# Altium schematic symbol library Passives.SchLib: 279 symbols (part 5 of 10)
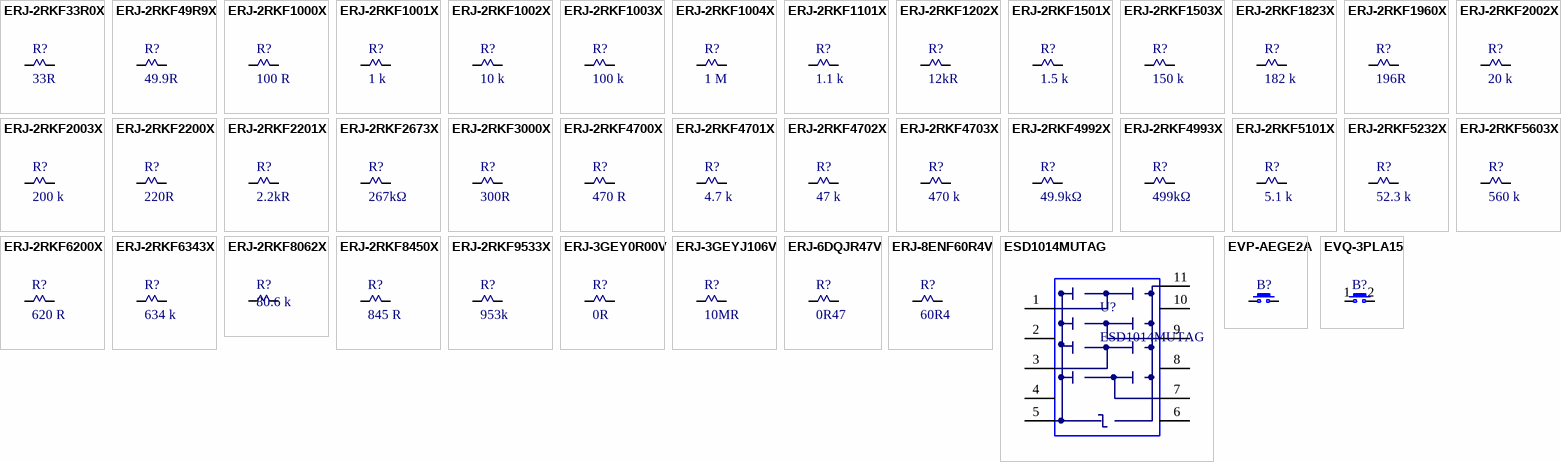
[diagram p11: symbols ERJ-2RKF33R0X to EVQ-3PLA15]

## ERJ-2RKF2003X
designator R?, comment 200 k
RES SMD 200K OHM 1% 1/10W 0402; Manufacturer: Panasonic Electronic Components; Manufacturer Part Number: ERJ-2RKF2003X; Power (Watts): 0.1W, 1/10W; Temperature Coefficient: ±100ppm/°C; Supplier 1: Digi-Key; RoHS: RoHS Compliant; Category: Resistors; Stock 1: 708742; Pricing 1: 1=0.1, 10=0.025, 25=0.018, 50=0.0136, 100=0.01, 250=0.00764, 500=0.00612, 1000=0.00451, 5000=0.00323 (USD); Packaging: Digi-Reel®; Part Status: Active; Resistance (Ohms): 200k; Tolerance: ±1%; Composition: Thick Film; Features: Automotive AEC-Q200; Operating Temperature: -55°C ~ 155°C; Package / Case: 0402 (1005 Metric); Supplier Device Package: 0402; Size / Dimension: 0.039" L x 0.020" W (1.00mm x 0.50mm); Height - Seated (Max): 0.016" (0.40mm); Number of Terminations: 2; Failure Rate: -; ComponentLink1URL: https://industrial.panasonic.com/cdbs/www-data/pdf/RDA0000/AOA0000C283.pdf; ComponentLink1Description: https://industrial.panasonic.com/cdbs/www-data/pdf/RDA0000/AOA0000C283.pdf; Supplier Part Number 1: P200KLDKR-ND; Value: 200 k
signal-integrity model Model Name (Model Description)
footprint RESC1005X04N (Chip Resistor, 2-Leads, Body 1.00x0.50mm, IPC Medium Density)
pins: 1, 2

## ERJ-2RKF2200X
designator R?, comment 220R
RES, THICK FILM, 220R, 1%, 0.1W, 0402; Manufacturer: Panasonic; Manufacturer Part Number: ERJ-2RKF2200X; Temperature Coefficient: 100ppm/°C; Power Rating: 100mW; Voltage Rating: 50V; Supplier 1: Digi-Key; Supplier Part Number 1: P220LCT-ND; RoHS: Yes; Category: Chip SMD Resistors; Stock 1: 149501; Pricing 1: 1=0.10000, 10=0.02200, 100=0.00890, 1000=0.00398, 2500=0.00345, 5000=0.00285 (USD); Mount: Surface Mount; Case/Package: 0402; Number of Pins: 2; Contact Plating: Tin; Case Code (Imperial): 0402; Case Code (Metric): 1005; Min Operating Temperature: -55°C; Max Operating Temperature: 155°C; Resistance: 220R; Tolerance: 1%; Resistor Type: Thick Film; Packaging: Tape and Reel; Package Quantity: 10000; Termination: SMD/SMT; Number of Terminations: 2; Max Power Dissipation: 100mW; Voltage Rating (DC): 50V; Features: Automotive AEC-Q200; Length: 1mm; Width: 0.5mm; Height: 0.35mm; Depth: 0.5mm; Radiation Hardening: No; REACH SVHC: No SVHC; Military Standard: Not; Lead Free: Lead Free; ComponentLink1URL: https://datasheet.ciiva.com/11821/0900766b80f80784-11821255.pdf?src-supplier=RSComponents; ComponentLink1Description: https://datasheet.ciiva.com/11821/0900766b80f80784-11821255.pdf?src-supplier=RSComponents; ComponentLink2URL: https://datasheet.ciiva.com/16784/70260748-16784822.pdf?src-supplier=Allied+Electronics; ComponentLink2Description: https://datasheet.ciiva.com/16784/70260748-16784822.pdf?src-supplier=Allied+Electronics; ComponentLink3URL: https://datasheet.ciiva.com/16762/70260748-16762119.pdf?src-supplier=Allied+Electronics; ComponentLink3Description: https://datasheet.ciiva.com/16762/70260748-16762119.pdf?src-supplier=Allied+Electronics; ComponentLink4URL: https://datasheet.ciiva.com/30162/aoa0000ce2-30162199.pdf?src-supplier=Onlinecomponents.com; ComponentLink4Description: https://datasheet.ciiva.com/30162/aoa0000ce2-30162199.pdf?src-supplier=Onlinecomponents.com; ComponentLink5URL: https://datasheet.ciiva.com/22668/426256-22668362.pdf?src-supplier=Element14; ComponentLink5Description: https://datasheet.ciiva.com/22668/426256-22668362.pdf?src-supplier=Element14; ComponentLink6URL: https://datasheet.ciiva.com/7886/aoa0000ce2-7886716.pdf?src-supplier=Element14; ComponentLink6Description: https://datasheet.ciiva.com/7886/aoa0000ce2-7886716.pdf?src-supplier=Element14; ComponentLink7URL: https://datasheet.ciiva.com/46372/1678782-46372860.pdf?src-supplier=Element14; ComponentLink7Description: https://datasheet.ciiva.com/46372/1678782-46372860.pdf?src-supplier=Element14; ComponentLink8URL: https://datasheet.ciiva.com/17206/aoa0000ce2-17206829.pdf?src-supplier=Avnet+Europe; ComponentLink8Description: https://datasheet.ciiva.com/17206/aoa0000ce2-17206829.pdf?src-supplier=Avnet+Europe; ComponentLink9URL: https://datasheet.ciiva.com/46372/1678782-46372861.pdf?src-supplier=Element14; ComponentLink9Description: https://datasheet.ciiva.com/46372/1678782-46372861.pdf?src-supplier=Element14; ComponentLink10URL: https://datasheet.ciiva.com/9184/aoa0000ce2-9184270.pdf?src-supplier=Avnet; ComponentLink10Description: https://datasheet.ciiva.com/9184/aoa0000ce2-9184270.pdf?src-supplier=Avnet
footprint RESC1005X04N (Chip Resistor, 2-Leads, Body 1.00x0.50mm, IPC Medium Density)
pins: 1, 2

## ERJ-2RKF2201X
designator R?, comment 2.2kR
RES, THICK FILM,  2.2K OHM 1%, 0.1W, 0402,; Manufacturer: Panasonic; Manufacturer Part Number: ERJ-2RKF2201X; Temperature Coefficient: 100ppm/°C; Power Rating: 100mW; Voltage Rating: 50V; RoHS: Yes; Category: Chip SMD Resistors; Stock 1: 775580; Pricing 1: 1=0.10000, 10=0.02200, 100=0.00890, 1000=0.00398, 2500=0.00345, 5000=0.00285 (USD); Mount: Surface Mount; Case/Package: 0402; Number of Pins: 2; Contact Plating: Tin; Case Code (Imperial): 0402; Case Code (Metric): 1005; Weight: 2.8E-05oz; Min Operating Temperature: -55°C; Max Operating Temperature: 155°C; Resistance: 2.2kR; Tolerance: 1%; Resistor Type: Thick Film; Packaging: Tape and Reel; Package Quantity: 1; Termination: SMD/SMT; Number of Terminations: 2; Max Power Dissipation: 100mW; Voltage Rating (DC): 50V; Features: Automotive AEC-Q200; Length: 1mm; Width: 0.5mm; Height: 0.35mm; Depth: 0.5mm; Radiation Hardening: No; REACH SVHC: No SVHC; Military Standard: Not; Lead Free: Lead Free; ComponentLink1URL: https://datasheet.ciiva.com/11821/0900766b80f80784-11821273.pdf?src-supplier=RSComponents; ComponentLink1Description: https://datasheet.ciiva.com/11821/0900766b80f80784-11821273.pdf?src-supplier=RSComponents; ComponentLink2URL: https://datasheet.ciiva.com/7830/aoa0000ce2-7830726.pdf?src-supplier=Element14; ComponentLink2Description: https://datasheet.ciiva.com/7830/aoa0000ce2-7830726.pdf?src-supplier=Element14; ComponentLink3URL: https://datasheet.ciiva.com/16780/70260748-16780438.pdf?src-supplier=Allied+Electronics; ComponentLink3Description: https://datasheet.ciiva.com/16780/70260748-16780438.pdf?src-supplier=Allied+Electronics; ComponentLink4URL: https://datasheet.ciiva.com/16426/aoa0000ce2-16426745.pdf?src-supplier=Future+Electronics; ComponentLink4Description: https://datasheet.ciiva.com/16426/aoa0000ce2-16426745.pdf?src-supplier=Future+Electronics; ComponentLink5URL: https://datasheet.ciiva.com/9197/aoa0000ce2-9197306.pdf?src-supplier=Avnet; ComponentLink5Description: https://datasheet.ciiva.com/9197/aoa0000ce2-9197306.pdf?src-supplier=Avnet; ComponentLink6URL: https://datasheet.ciiva.com/48531/aoa0000ce2-48531066.pdf?src-supplier=Avnet; ComponentLink6Description: https://datasheet.ciiva.com/48531/aoa0000ce2-48531066.pdf?src-supplier=Avnet; ComponentLink7URL: https://datasheet.ciiva.com/17214/aoa0000ce2-17214251.pdf?src-supplier=Avnet+Europe; ComponentLink7Description: https://datasheet.ciiva.com/17214/aoa0000ce2-17214251.pdf?src-supplier=Avnet+Europe; ComponentLink8URL: https://datasheet.ciiva.com/28584/1678782-28584091.pdf?src-supplier=Element14; ComponentLink8Description: https://datasheet.ciiva.com/28584/1678782-28584091.pdf?src-supplier=Element14; ComponentLink9URL: https://datasheet.ciiva.com/16759/70260748-16759436.pdf?src-supplier=Allied+Electronics; ComponentLink9Description: https://datasheet.ciiva.com/16759/70260748-16759436.pdf?src-supplier=Allied+Electronics; ComponentLink10URL: https://datasheet.ciiva.com/46372/1678782-46372732.pdf?src-supplier=Element14; ComponentLink10Description: https://datasheet.ciiva.com/46372/1678782-46372732.pdf?src-supplier=Element14; ComponentLink11URL: https://datasheet.ciiva.com/46372/1678782-46372733.pdf?src-supplier=Element14; ComponentLink11Description: https://datasheet.ciiva.com/46372/1678782-46372733.pdf?src-supplier=Element14; ComponentLink12URL: https://datasheet.ciiva.com/43467/1678782-43467343.pdf?src-supplier=Farnell; ComponentLink12Description: https://datasheet.ciiva.com/43467/1678782-43467343.pdf?src-supplier=Farnell; Stock 2: 149501; Pricing 2: 1=0.10000, 10=0.02200, 100=0.00890, 1000=0.00398, 2500=0.00345, 5000=0.00285 (USD); ComponentLink13URL: https://datasheet.ciiva.com/11821/0900766b80f80784-11821255.pdf?src-supplier=RSComponents; ComponentLink13Description: https://datasheet.ciiva.com/11821/0900766b80f80784-11821255.pdf?src-supplier=RSComponents; ComponentLink14URL: https://datasheet.ciiva.com/16784/70260748-16784822.pdf?src-supplier=Allied+Electronics; ComponentLink14Description: https://datasheet.ciiva.com/16784/70260748-16784822.pdf?src-supplier=Allied+Electronics; ComponentLink15URL: https://datasheet.ciiva.com/16762/70260748-16762119.pdf?src-supplier=Allied+Electronics; ComponentLink15Description: https://datasheet.ciiva.com/16762/70260748-16762119.pdf?src-supplier=Allied+Electronics; ComponentLink16URL: https://datasheet.ciiva.com/30162/aoa0000ce2-30162199.pdf?src-supplier=Onlinecomponents.com; ComponentLink16Description: https://datasheet.ciiva.com/30162/aoa0000ce2-30162199.pdf?src-supplier=Onlinecomponents.com; ComponentLink17URL: https://datasheet.ciiva.com/22668/426256-22668362.pdf?src-supplier=Element14; ComponentLink17Description: https://datasheet.ciiva.com/22668/426256-22668362.pdf?src-supplier=Element14; ComponentLink18URL: https://datasheet.ciiva.com/7886/aoa0000ce2-7886716.pdf?src-supplier=Element14; ComponentLink18Description: https://datasheet.ciiva.com/7886/aoa0000ce2-7886716.pdf?src-supplier=Element14; ComponentLink19URL: https://datasheet.ciiva.com/46372/1678782-46372860.pdf?src-supplier=Element14; ComponentLink19Description: https://datasheet.ciiva.com/46372/1678782-46372860.pdf?src-supplier=Element14; ComponentLink20URL: https://datasheet.ciiva.com/17206/aoa0000ce2-17206829.pdf?src-supplier=Avnet+Europe; ComponentLink20Description: https://datasheet.ciiva.com/17206/aoa0000ce2-17206829.pdf?src-supplier=Avnet+Europe; ComponentLink21URL: https://datasheet.ciiva.com/46372/1678782-46372861.pdf?src-supplier=Element14; ComponentLink21Description: https://datasheet.ciiva.com/46372/1678782-46372861.pdf?src-supplier=Element14; ComponentLink22URL: https://datasheet.ciiva.com/9184/aoa0000ce2-9184270.pdf?src-supplier=Avnet; ComponentLink22Description: https://datasheet.ciiva.com/9184/aoa0000ce2-9184270.pdf?src-supplier=Avnet; Supplier 1: Digi-Key; Supplier Part Number 1: P2.20KLCT-ND
footprint RESC1005X04N (Chip Resistor, 2-Leads, Body 1.00x0.50mm, IPC Medium Density)
pins: 1, 2

## ERJ-2RKF2673X
designator R?, comment 267kΩ
Res Thick Film 0402 267K Ohm 1% 1/10W ±100ppm/°C Molded SMD Punched Carrier T/R; Manufacturer: Panasonic; Manufacturer Part Number: ERJ-2RKF2673X; Manufacturer Lifecycle Status: ACTIVE; Part Series: Precision Thick Film Chip Resistors; Max Power Dissipation: 100mW; Voltage Rating: 50V; Supplier: Future Electronics; Supplier Part Number: ERJ2RKF2673X; RoHS: Compliant; Category: Chip SMD Resistors; Stock: 90000; Pricing: 10000=0.0035, 40000=0.0034, 150000=0.0033, 250000=0.0032, 500000=0.0031 (USD); Case/Package: 0402; Case Code (Imperial): 0402; China RoHS: Non-Compliant; Composition: Thick Film; Contact Plating: Tin; Country of Origin: Japan, Mainland China; Depth: 500µm; Export Control Classification Number (ECCN) Code: EAR99; Features: Automotive AEC-Q200; Height: 350µm; Harmonized Tariff Schedule (HTS) Code: 8533.21.00.30; Introduction Date: 2004-02-02; Lead Free: Lead Free; Length: 1mm; Lifecycle Status: Production; Max Operating Temperature: 155°C; Military Standard: Not; Min Operating Temperature: -55°C; Mounting Technology: Surface Mount; Number of Terminals: 2; Number of Terminations: 2; Power Dissipation: 100mW; Power Rating: 100mW; Ratings: AEC-Q200; REACH SVHC: Yes; Value: 267kΩ; Schedule B: 8533210045, 8533210045|8533210045|8533210045|8533210045|8533210045; Temperature Coefficient: 100ppm/°C; Termination: SMD/SMT; Tolerance: 1%; Voltage Rating (DC): 50V; Width: 500µm; Working Voltage: 50V; ComponentLink1URL: https://datasheet.octopart.com:443/ERJ-2RKF2673X-Panasonic-datasheet-82288794.pdf?src-supplier=Panasonic; ComponentLink1Description: https://datasheet.octopart.com:443/ERJ-2RKF2673X-Panasonic-datasheet-82288794.pdf?src-supplier=Panasonic; ComponentLink2URL: https://datasheet.octopart.com:443/ERJ-2RKF2673X-Panasonic-datasheet-48891056.pdf?src-supplier=Newark; ComponentLink2Description: https://datasheet.octopart.com:443/ERJ-2RKF2673X-Panasonic-datasheet-48891056.pdf?src-supplier=Newark; ComponentLink3URL: https://datasheet.octopart.com:443/ERJ-2RKF2673X-Panasonic-datasheet-13266541.pdf?src-supplier=Newark; ComponentLink3Description: https://datasheet.octopart.com:443/ERJ-2RKF2673X-Panasonic-datasheet-13266541.pdf?src-supplier=Newark; ComponentLink4URL: https://datasheet.octopart.com:443/ERJ-2RKF2673X-Panasonic-datasheet-33006990.pdf?src-supplier=Newark; ComponentLink4Description: https://datasheet.octopart.com:443/ERJ-2RKF2673X-Panasonic-datasheet-33006990.pdf?src-supplier=Newark; ComponentLink5URL: https://datasheet.octopart.com:443/ERJ-2RKF2673X-Panasonic---ECG-datasheet-21211697.pdf?src-supplier=Newark; ComponentLink5Description: https://datasheet.octopart.com:443/ERJ-2RKF2673X-Panasonic---ECG-datasheet-21211697.pdf?src-supplier=Newark; ComponentLink6URL: https://datasheet.octopart.com:443/ERJ-2RKF2673X-Panasonic-datasheet-136608610.pdf?src-supplier=Farnell; ComponentLink6Description: https://datasheet.octopart.com:443/ERJ-2RKF2673X-Panasonic-datasheet-136608610.pdf?src-supplier=Farnell; ComponentLink7URL: https://datasheet.octopart.com:443/ERJ-2RKF2673X-Panasonic---ECG-datasheet-15994758.pdf?src-supplier=Farnell; ComponentLink7Description: https://datasheet.octopart.com:443/ERJ-2RKF2673X-Panasonic---ECG-datasheet-15994758.pdf?src-supplier=Farnell; ComponentLink8URL: https://datasheet.octopart.com:443/ERJ-2RKF2673X-Panasonic---ECG-datasheet-10025800.pdf?src-supplier=Farnell; ComponentLink8Description: https://datasheet.octopart.com:443/ERJ-2RKF2673X-Panasonic---ECG-datasheet-10025800.pdf?src-supplier=Farnell; ComponentLink9URL: https://datasheet.octopart.com:443/ERJ-2RKF2673X-Panasonic---ECG-datasheet-8853621.pdf?src-supplier=Farnell; ComponentLink9Description: https://datasheet.octopart.com:443/ERJ-2RKF2673X-Panasonic---ECG-datasheet-8853621.pdf?src-supplier=Farnell; ComponentLink10URL: https://datasheet.octopart.com:443/ERJ-2RKF2673X-Panasonic---ECG-datasheet-5313456.pdf?src-supplier=Farnell; ComponentLink10Description: https://datasheet.octopart.com:443/ERJ-2RKF2673X-Panasonic---ECG-datasheet-5313456.pdf?src-supplier=Farnell; ComponentLink11URL: https://datasheet.octopart.com:443/ERJ2RKF2673X-Panasonic-datasheet-164353789.pdf?src-supplier=HQonline; ComponentLink11Description: https://datasheet.octopart.com:443/ERJ2RKF2673X-Panasonic-datasheet-164353789.pdf?src-supplier=HQonline; ComponentLink12URL: https://datasheet.octopart.com:443/ERJ-2RKF2673X-Panasonic-datasheet-154766169.pdf?src-supplier=Master+Electronics; ComponentLink12Description: https://datasheet.octopart.com:443/ERJ-2RKF2673X-Panasonic-datasheet-154766169.pdf?src-supplier=Master+Electronics; ComponentLink13URL: https://datasheet.octopart.com:443/ERJ2RKF2673X-Panasonic-datasheet-188592431.pdf?src-supplier=TME; ComponentLink13Description: https://datasheet.octopart.com:443/ERJ2RKF2673X-Panasonic-datasheet-188592431.pdf?src-supplier=TME; ComponentLink14URL: https://datasheet.octopart.com/ERJ-2RKF2673X-Panasonic-datasheet-78375410.pdf; ComponentLink14Description: https://datasheet.octopart.com/ERJ-2RKF2673X-Panasonic-datasheet-78375410.pdf; ComponentLink15URL: https://datasheet.octopart.com:443/ERJ-2RKF2673X-Panasonic-datasheet-11542829.pdf?src-supplier=Arrow+Electronics; ComponentLink15Description: https://datasheet.octopart.com:443/ERJ-2RKF2673X-Panasonic-datasheet-11542829.pdf?src-supplier=Arrow+Electronics; ComponentLink16URL: https://datasheet.octopart.com:443/ERJ-2RKF2673X-Panasonic-datasheet-118621.pdf?src-supplier=DigiKey; ComponentLink16Description: https://datasheet.octopart.com:443/ERJ-2RKF2673X-Panasonic-datasheet-118621.pdf?src-supplier=DigiKey; ComponentLink17URL: https://datasheet.octopart.com:443/ERJ-2RKF2673X-Panasonic-datasheet-41391857.pdf?src-supplier=Electro+Sonic; ComponentLink17Description: https://datasheet.octopart.com:443/ERJ-2RKF2673X-Panasonic-datasheet-41391857.pdf?src-supplier=Electro+Sonic
footprint RESC1005X04N (Chip Resistor, 2-Leads, Body 1.00x0.50mm, IPC Medium Density)
pins: 1, 2

## ERJ-2RKF3000X
designator R?, comment 300R
Res Thick Film 0402 300 Ohm 1% 0.1W ±100ppm/°C Molded SMD Punched Carrier T/R; Manufacturer: Panasonic; Manufacturer Part Number: ERJ-2RKF3000X; Supplier: Avnet; Supplier Part Number: ERJ-2RKF3000X; RoHS: Yes; Category: Chip SMD Resistors; Stock: 60000; Pricing: 10000=0.00235, 20000=0.00233, 40000=0.00229, 60000=0.00225, 80000=0.00221 (USD); ComponentLink1URL: https://datasheet.ciiva.com/3883/3984280s8821682n1386-3883650.pdf?src-supplier=Arrow+Electronics; ComponentLink1Description: https://datasheet.ciiva.com/3883/3984280s8821682n1386-3883650.pdf?src-supplier=Arrow+Electronics; ComponentLink2URL: https://datasheet.ciiva.com/11821/0900766b80f80784-11821263.pdf?src-supplier=Rs; ComponentLink2Description: https://datasheet.ciiva.com/11821/0900766b80f80784-11821263.pdf?src-supplier=Rs; ComponentLink3URL: https://datasheet.ciiva.com/16765/70260748-16765494.pdf?src-supplier=Allied+Electronics; ComponentLink3Description: https://datasheet.ciiva.com/16765/70260748-16765494.pdf?src-supplier=Allied+Electronics; ComponentLink4URL: https://datasheet.ciiva.com/28565/1694929-28565023.pdf?src-supplier=Element14; ComponentLink4Description: https://datasheet.ciiva.com/28565/1694929-28565023.pdf?src-supplier=Element14; ComponentLink5URL: https://datasheet.ciiva.com/30068/aoa0000ce2-30068727.pdf?src-supplier=Onlinecomponents.com; ComponentLink5Description: https://datasheet.ciiva.com/30068/aoa0000ce2-30068727.pdf?src-supplier=Onlinecomponents.com; ComponentLink6URL: https://datasheet.ciiva.com/24068/aoa0000ce2-24068911.pdf?src-supplier=Mouser; ComponentLink6Description: https://datasheet.ciiva.com/24068/aoa0000ce2-24068911.pdf?src-supplier=Mouser; ComponentLink7URL: https://datasheet.ciiva.com/43467/1678782-43467261.pdf?src-supplier=Farnell; ComponentLink7Description: https://datasheet.ciiva.com/43467/1678782-43467261.pdf?src-supplier=Farnell; Resistance: 300R; Supplier 1: Avnet; Supplier Part Number 1: ERJ-2RKF3000X
footprint RESC1005X04N (Chip Resistor, 2-Leads, Body 1.00x0.50mm, IPC Medium Density)
pins: 1, 2

## ERJ-2RKF4700X
designator R?, comment 470 R
RES SMD 470 OHM 1% 1/10W 0402; Manufacturer: Panasonic Electronic Components; Manufacturer Part Number: ERJ-2RKF4700X; Resistance (Ohms): 470; Power (Watts): 0.1W, 1/10W; Temperature Coefficient: ±100ppm/°C; Supplier 1: Digi-Key; RoHS: RoHS Compliant; Category: Resistors; Stock 1: 322002; Pricing 1: 1=0.1, 10=0.025, 25=0.018, 50=0.0136, 100=0.01, 250=0.00764, 500=0.00612, 1000=0.00451, 5000=0.00323 (USD); Packaging: Digi-Reel®; Part Status: Active; Tolerance: ±1%; Composition: Thick Film; Features: Automotive AEC-Q200; Operating Temperature: -55°C ~ 155°C; Package / Case: 0402 (1005 Metric); Supplier Device Package: 0402; Size / Dimension: 0.039" L x 0.020" W (1.00mm x 0.50mm); Height - Seated (Max): 0.016" (0.40mm); Number of Terminations: 2; Failure Rate: -; ComponentLink1URL: https://industrial.panasonic.com/cdbs/www-data/pdf/RDA0000/AOA0000C283.pdf; ComponentLink1Description: https://industrial.panasonic.com/cdbs/www-data/pdf/RDA0000/AOA0000C283.pdf; Supplier Part Number 1: P470LDKR-ND; Value: 470 R
footprint RESC1005X04N (Chip Resistor, 2-Leads, Body 1.00x0.50mm, IPC Medium Density)
signal-integrity model Model Name (Model Description)
pins: 1, 2

## ERJ-2RKF4701X
designator R?, comment 4.7 k
RES SMD 4.7K OHM 1% 1/10W 0402; Manufacturer: Panasonic Electronic Components; Manufacturer Part Number: ERJ-2RKF4701X; Power (Watts): 0.1W, 1/10W; Temperature Coefficient: ±100ppm/°C; Supplier 1: Digi-Key; RoHS: RoHS Compliant; Category: Resistors; Stock 1: 1945303; Pricing 1: 1=0.1, 10=0.025, 25=0.018, 50=0.0136, 100=0.01, 250=0.00764, 500=0.00612, 1000=0.00451, 5000=0.00323 (USD); Packaging: Digi-Reel®; Part Status: Active; Resistance (Ohms): 4.7k; Tolerance: ±1%; Composition: Thick Film; Features: Automotive AEC-Q200; Operating Temperature: -55°C ~ 155°C; Package / Case: 0402 (1005 Metric); Supplier Device Package: 0402; Size / Dimension: 0.039" L x 0.020" W (1.00mm x 0.50mm); Height - Seated (Max): 0.016" (0.40mm); Number of Terminations: 2; Failure Rate: -; ComponentLink1URL: https://industrial.panasonic.com/cdbs/www-data/pdf/RDA0000/AOA0000C283.pdf; ComponentLink1Description: https://industrial.panasonic.com/cdbs/www-data/pdf/RDA0000/AOA0000C283.pdf; Supplier Part Number 1: P4.70KLDKR-ND; Value: 4.7 k
footprint RESC1005X04N (Chip Resistor, 2-Leads, Body 1.00x0.50mm, IPC Medium Density)
signal-integrity model Model Name (Model Description)
pins: 1, 2

## ERJ-2RKF4702X
designator R?, comment 47 k
RES SMD 47K OHM 1% 1/10W 0402; Manufacturer: Panasonic Electronic Components; Manufacturer Part Number: ERJ-2RKF4702X; Power (Watts): 0.1W, 1/10W; Temperature Coefficient: ±100ppm/°C; Supplier 1: Digi-Key; RoHS: RoHS Compliant; Category: Resistors; Stock 1: 1319055; Pricing 1: 1=0.1, 10=0.025, 25=0.018, 50=0.0136, 100=0.01, 250=0.00764, 500=0.00612, 1000=0.00451, 5000=0.00323 (USD); Packaging: Digi-Reel®; Part Status: Active; Resistance (Ohms): 47k; Tolerance: ±1%; Composition: Thick Film; Features: Automotive AEC-Q200; Operating Temperature: -55°C ~ 155°C; Package / Case: 0402 (1005 Metric); Supplier Device Package: 0402; Size / Dimension: 0.039" L x 0.020" W (1.00mm x 0.50mm); Height - Seated (Max): 0.016" (0.40mm); Number of Terminations: 2; Failure Rate: -; ComponentLink1URL: https://industrial.panasonic.com/cdbs/www-data/pdf/RDA0000/AOA0000C283.pdf; ComponentLink1Description: https://industrial.panasonic.com/cdbs/www-data/pdf/RDA0000/AOA0000C283.pdf; Supplier Part Number 1: P47.0KLDKR-ND; Value: 47 k
footprint RESC1005X04N (Chip Resistor, 2-Leads, Body 1.00x0.50mm, IPC Medium Density)
signal-integrity model Model Name (Model Description)
pins: 1, 2

## ERJ-2RKF4703X
designator R?, comment 470 k
RES SMD 470K OHM 1% 1/10W 0402; Manufacturer: Panasonic Electronic Components; Manufacturer Part Number: ERJ-2RKF4703X; Power (Watts): 0.1W, 1/10W; Temperature Coefficient: ±100ppm/°C; Supplier 1: Digi-Key; RoHS: RoHS Compliant; Category: Resistors; Stock 1: 157317; Pricing 1: 1=0.1, 10=0.025, 25=0.018, 50=0.0136, 100=0.01, 250=0.00764, 500=0.00612, 1000=0.00451, 5000=0.00323 (USD); Packaging: Digi-Reel®; Part Status: Active; Resistance (Ohms): 470k; Tolerance: ±1%; Composition: Thick Film; Features: Automotive AEC-Q200; Operating Temperature: -55°C ~ 155°C; Package / Case: 0402 (1005 Metric); Supplier Device Package: 0402; Size / Dimension: 0.039" L x 0.020" W (1.00mm x 0.50mm); Height - Seated (Max): 0.016" (0.40mm); Number of Terminations: 2; Failure Rate: -; ComponentLink1URL: https://industrial.panasonic.com/cdbs/www-data/pdf/RDA0000/AOA0000C283.pdf; ComponentLink1Description: https://industrial.panasonic.com/cdbs/www-data/pdf/RDA0000/AOA0000C283.pdf; Supplier Part Number 1: P470KLDKR-ND; Value: 470 k
footprint RESC1005X04N (Chip Resistor, 2-Leads, Body 1.00x0.50mm, IPC Medium Density)
signal-integrity model Model Name (Model Description)
pins: 1, 2

## ERJ-2RKF4992X
designator R?, comment 49.9kΩ
Res Thick Film 0402 49.9K Ohm 1% 0.1W(1/10W) ±100ppm/C Pad SMD Automotive T/R; Manufacturer: Panasonic; Manufacturer Part Number: ERJ2RKF4992X; Manufacturer Lifecycle Status: ACTIVE; Part Series: Precision Thick Film Chip Resistors; Max Power Dissipation: 100mW; Temperature Coefficient: 100ppm/°C; Voltage Rating: 50V; Supplier: Farnell; Supplier Part Number: ERJ2RKF4992X; RoHS: Compliant; Category: Chip SMD Resistors; Stock: 1157; Pricing: 500=0.0086, 2500=0.0076, 5000=0.0057 (EUR); Case/Package: 0402; Case Code (Imperial): 0402; China RoHS: Non-Compliant; Composition: Thick Film; Contact Plating: Tin; Country of Origin: Japan, Mainland China; Depth: 500µm; Export Control Classification Number (ECCN) Code: EAR99; Features: Automotive AEC-Q200; Height: 350µm; Harmonized Tariff Schedule (HTS) Code: 8533.21.00.30; Introduction Date: 2004-02-02; Lead Free: Lead Free; Length: 1mm; Lifecycle Status: Production; Max Operating Temperature: 155°C; Military Standard: Not; Min Operating Temperature: -55°C; Mounting Technology: Surface Mount; Number of Terminals: 2; Number of Terminations: 2; Packaging: Cut Tape; Power Rating: 100mW; Radiation Hardening: No; Ratings: AEC-Q200; REACH SVHC: Yes; Value: 49.9kΩ; Schedule B: 8533210045, 8533210045|8533210045|8533210045|8533210045|8533210045; Termination: SMD/SMT; Tolerance: 1%; Voltage Rating (DC): 50V; Width: 500µm; Working Voltage: 50V; ComponentLink1URL: https://datasheet.octopart.com:443/ERJ2RKF4992X-Panasonic-datasheet-82288794.pdf?src-supplier=Upverter; ComponentLink1Description: https://datasheet.octopart.com:443/ERJ2RKF4992X-Panasonic-datasheet-82288794.pdf?src-supplier=Upverter; ComponentLink2URL: https://datasheet.octopart.com:443/ERJ2RKF4992X-Panasonic-datasheet-13266541.pdf?src-supplier=RS+(Formerly+Allied+Electronics); ComponentLink2Description: https://datasheet.octopart.com:443/ERJ2RKF4992X-Panasonic-datasheet-13266541.pdf?src-supplier=RS+(Formerly+Allied+Electronics); ComponentLink3URL: https://datasheet.octopart.com:443/ERJ2RKF4992X-Panasonic-datasheet-10025800.pdf?src-supplier=Future+Electronics; ComponentLink3Description: https://datasheet.octopart.com:443/ERJ2RKF4992X-Panasonic-datasheet-10025800.pdf?src-supplier=Future+Electronics; ComponentLink4URL: https://datasheet.octopart.com:443/ERJ2RKF4992X-Panasonic-datasheet-8853621.pdf?src-supplier=Future+Electronics; ComponentLink4Description: https://datasheet.octopart.com:443/ERJ2RKF4992X-Panasonic-datasheet-8853621.pdf?src-supplier=Future+Electronics; ComponentLink5URL: https://datasheet.octopart.com:443/ERJ2RKF4992X-Panasonic-datasheet-5313456.pdf?src-supplier=Future+Electronics; ComponentLink5Description: https://datasheet.octopart.com:443/ERJ2RKF4992X-Panasonic-datasheet-5313456.pdf?src-supplier=Future+Electronics; ComponentLink6URL: https://datasheet.octopart.com:443/ERJ2RKF4992X-Panasonic-datasheet-48891056.pdf?src-supplier=Newark; ComponentLink6Description: https://datasheet.octopart.com:443/ERJ2RKF4992X-Panasonic-datasheet-48891056.pdf?src-supplier=Newark; ComponentLink7URL: https://datasheet.octopart.com:443/ERJ2RKF4992X-Panasonic-datasheet-136608610.pdf?src-supplier=Newark; ComponentLink7Description: https://datasheet.octopart.com:443/ERJ2RKF4992X-Panasonic-datasheet-136608610.pdf?src-supplier=Newark; ComponentLink8URL: https://datasheet.octopart.com:443/ERJ-2RKF4992X-Panasonic-datasheet-154766169.pdf?src-supplier=JRH+Electronics; ComponentLink8Description: https://datasheet.octopart.com:443/ERJ-2RKF4992X-Panasonic-datasheet-154766169.pdf?src-supplier=JRH+Electronics; ComponentLink9URL: https://datasheet.octopart.com:443/ERJ2RKF4992X-Panasonic-datasheet-164353789.pdf?src-supplier=HQonline; ComponentLink9Description: https://datasheet.octopart.com:443/ERJ2RKF4992X-Panasonic-datasheet-164353789.pdf?src-supplier=HQonline; ComponentLink10URL: https://datasheet.octopart.com:443/ERJ2RKF4992X-Panasonic-datasheet-188592431.pdf?src-supplier=TME; ComponentLink10Description: https://datasheet.octopart.com:443/ERJ2RKF4992X-Panasonic-datasheet-188592431.pdf?src-supplier=TME; ComponentLink11URL: https://datasheet.octopart.com/ERJ2RKF4992X-Panasonic-datasheet-78375410.pdf; ComponentLink11Description: https://datasheet.octopart.com/ERJ2RKF4992X-Panasonic-datasheet-78375410.pdf; ComponentLink12URL: https://datasheet.octopart.com:443/ERJ-2RKF4992X-Panasonic---ECG-datasheet-15994758.pdf?src-supplier=Farnell; ComponentLink12Description: https://datasheet.octopart.com:443/ERJ-2RKF4992X-Panasonic---ECG-datasheet-15994758.pdf?src-supplier=Farnell; ComponentLink13URL: https://datasheet.octopart.com:443/ERJ2RKF4992X-Panasonic-datasheet-7538305.pdf?src-supplier=Jameco; ComponentLink13Description: https://datasheet.octopart.com:443/ERJ2RKF4992X-Panasonic-datasheet-7538305.pdf?src-supplier=Jameco; ComponentLink14URL: https://datasheet.octopart.com:443/ERJ-2RKF4992X-Panasonic-datasheet-118621.pdf?src-supplier=DigiKey; ComponentLink14Description: https://datasheet.octopart.com:443/ERJ-2RKF4992X-Panasonic-datasheet-118621.pdf?src-supplier=DigiKey; ComponentLink15URL: https://datasheet.octopart.com:443/ERJ-2RKF4992X-Panasonic-datasheet-41391857.pdf?src-supplier=Electro+Sonic; ComponentLink15Description: https://datasheet.octopart.com:443/ERJ-2RKF4992X-Panasonic-datasheet-41391857.pdf?src-supplier=Electro+Sonic; Supplier 1: Farnell; Supplier Part Number 1: ERJ2RKF4992X
footprint RESC1005X04N (Chip Resistor, 2-Leads, Body 1.00x0.50mm, IPC Medium Density)
pins: 1, 2

## ERJ-2RKF4993X
designator R?, comment 499kΩ
Res Thick Film 0402 499K Ohm 1% 0.1W ±100ppm/°C Molded SMD Punched Carrier T/R; Manufacturer: Panasonic; Manufacturer Part Number: ERJ-2RKF4993X; Manufacturer Lifecycle Status: ACTIVE; Part Series: Precision Thick Film Chip Resistors; Max Power Dissipation: 100mW; Voltage Rating: 50V; Supplier: Farnell; Supplier Part Number: ERJ2RKF4993X; RoHS: Compliant; Category: Chip SMD Resistors; Stock: 21194; Pricing: 10=0.0162, 100=0.0134, 500=0.0086, 2500=0.0076, 5000=0.0057 (EUR); Case/Package: 0402; Case Code (Imperial): 0402; China RoHS: Non-Compliant; Composition: Thick Film; Contact Plating: Tin; Country of Origin: Japan, Mainland China; Depth: 500µm; Export Control Classification Number (ECCN) Code: EAR99; Features: Automotive AEC-Q200; Height: 350µm; Harmonized Tariff Schedule (HTS) Code: 8533.21.00.30; Introduction Date: 2004-02-02; Lead Free: Lead Free; Length: 1mm; Lifecycle Status: Production; Max Operating Temperature: 155°C; Military Standard: Not; Min Operating Temperature: -55°C; Mounting Technology: Surface Mount; Pins: 2; Number of Terminals: 2; Number of Terminations: 2; Packaging: Cut Tape; Power Rating: 100mW; Ratings: AEC-Q200; REACH SVHC: Yes; Value: 499kΩ; Schedule B: 8533210045, 8533210045|8533210045, 8533210045|8533210045|8533210045, 8533210045|8533210045|8533210045|8533210045; Temperature Coefficient: 100ppm/°C; Termination: SMD/SMT; Tolerance: 1%; Voltage Rating (DC): 50V; Weight: 793.786648µg; Width: 500µm; Working Voltage: 50V; ComponentLink1URL: https://sigma.octopart.com:443/138766958/technical_drawing/Panasonic-ERJ-2RKF4993X.pdf?src-supplier=Upverter; ComponentLink1Description: https://sigma.octopart.com:443/138766958/technical_drawing/Panasonic-ERJ-2RKF4993X.pdf?src-supplier=Upverter; ComponentLink2URL: https://datasheet.octopart.com:443/ERJ-2RKF4993X-Panasonic-datasheet-82288794.pdf?src-supplier=Panasonic; ComponentLink2Description: https://datasheet.octopart.com:443/ERJ-2RKF4993X-Panasonic-datasheet-82288794.pdf?src-supplier=Panasonic; ComponentLink3URL: https://datasheet.octopart.com:443/ERJ-2RKF4993X-Panasonic-datasheet-13266541.pdf?src-supplier=Farnell; ComponentLink3Description: https://datasheet.octopart.com:443/ERJ-2RKF4993X-Panasonic-datasheet-13266541.pdf?src-supplier=Farnell; ComponentLink4URL: https://datasheet.octopart.com:443/ERJ-2RKF4993X-Panasonic-datasheet-10025800.pdf?src-supplier=Farnell; ComponentLink4Description: https://datasheet.octopart.com:443/ERJ-2RKF4993X-Panasonic-datasheet-10025800.pdf?src-supplier=Farnell; ComponentLink5URL: https://datasheet.octopart.com:443/ERJ-2RKF4993X-Panasonic-datasheet-8853621.pdf?src-supplier=Farnell; ComponentLink5Description: https://datasheet.octopart.com:443/ERJ-2RKF4993X-Panasonic-datasheet-8853621.pdf?src-supplier=Farnell; ComponentLink6URL: https://datasheet.octopart.com:443/ERJ-2RKF4993X-Panasonic---ECG-datasheet-15994758.pdf?src-supplier=Farnell; ComponentLink6Description: https://datasheet.octopart.com:443/ERJ-2RKF4993X-Panasonic---ECG-datasheet-15994758.pdf?src-supplier=Farnell; ComponentLink7URL: https://datasheet.octopart.com:443/ERJ-2RKF4993X-Panasonic-datasheet-5313456.pdf?src-supplier=element14+APAC; ComponentLink7Description: https://datasheet.octopart.com:443/ERJ-2RKF4993X-Panasonic-datasheet-5313456.pdf?src-supplier=element14+APAC; ComponentLink8URL: https://datasheet.octopart.com:443/ERJ-2RKF4993X-Panasonic-datasheet-48891056.pdf?src-supplier=Newark; ComponentLink8Description: https://datasheet.octopart.com:443/ERJ-2RKF4993X-Panasonic-datasheet-48891056.pdf?src-supplier=Newark; ComponentLink9URL: https://datasheet.octopart.com:443/ERJ-2RKF4993X-Panasonic-datasheet-136608610.pdf?src-supplier=Newark; ComponentLink9Description: https://datasheet.octopart.com:443/ERJ-2RKF4993X-Panasonic-datasheet-136608610.pdf?src-supplier=Newark; ComponentLink10URL: https://datasheet.octopart.com:443/ERJ-2RKF4993X-Panasonic-datasheet-154766169.pdf?src-supplier=JRH+Electronics; ComponentLink10Description: https://datasheet.octopart.com:443/ERJ-2RKF4993X-Panasonic-datasheet-154766169.pdf?src-supplier=JRH+Electronics; ComponentLink11URL: https://datasheet.octopart.com:443/ERJ2RKF4993X-Panasonic-datasheet-164353789.pdf?src-supplier=HQonline; ComponentLink11Description: https://datasheet.octopart.com:443/ERJ2RKF4993X-Panasonic-datasheet-164353789.pdf?src-supplier=HQonline; ComponentLink12URL: https://datasheet.octopart.com:443/ERJ2RKF4993X-Panasonic-datasheet-188592431.pdf?src-supplier=TME; ComponentLink12Description: https://datasheet.octopart.com:443/ERJ2RKF4993X-Panasonic-datasheet-188592431.pdf?src-supplier=TME; ComponentLink13URL: https://datasheet.octopart.com/ERJ-2RKF4993X-Panasonic-datasheet-78375410.pdf; ComponentLink13Description: https://datasheet.octopart.com/ERJ-2RKF4993X-Panasonic-datasheet-78375410.pdf; ComponentLink14URL: https://datasheet.octopart.com/Precision-Thick-Film-Chip-Resistors-Panasonic-datasheet-family-106.pdf; ComponentLink14Description: https://datasheet.octopart.com/Precision-Thick-Film-Chip-Resistors-Panasonic-datasheet-family-106.pdf; ComponentLink15URL: https://datasheet.octopart.com:443/ERJ-2RKF4993X-Panasonic-datasheet-118621.pdf?src-supplier=DigiKey; ComponentLink15Description: https://datasheet.octopart.com:443/ERJ-2RKF4993X-Panasonic-datasheet-118621.pdf?src-supplier=DigiKey; ComponentLink16URL: https://datasheet.octopart.com:443/ERJ-2RKF4993X-Panasonic-datasheet-41391857.pdf?src-supplier=Electro+Sonic; ComponentLink16Description: https://datasheet.octopart.com:443/ERJ-2RKF4993X-Panasonic-datasheet-41391857.pdf?src-supplier=Electro+Sonic; Supplier 1: Farnell; Supplier Part Number 1: ERJ2RKF4993X
footprint RESC1005X04N (Chip Resistor, 2-Leads, Body 1.00x0.50mm, IPC Medium Density)
pins: 1, 2

## ERJ-2RKF5101X
designator R?, comment 5.1 k
RES SMD 5.1K OHM 1% 1/10W 0402; Manufacturer: Panasonic; Manufacturer Part Number: ERJ-2RKF5101X; Power Rating: 100mW; Voltage Rating: 50V; Temperature Coefficient: 100ppm/°C; Supplier: Mouser; Supplier Part Number: 667-ERJ-2RKF5101X; RoHS: Yes; Category: Chip SMD Resistors; Stock: 709989; Pricing: 1=0.1, 10=0.016, 50=0.016, 100=0.009, 1000=0.007, 10000=0.004 (USD); Mounting Technology: Surface Mount; Case/Package: 0402; Case Code (Imperial): 0402; Case Code (Metric): 1005; Weight: 2.8E-05oz; Contact Plating: Tin; Min Operating Temperature: -55°C; Max Operating Temperature: 155°C; Value: 5.1 k; Tolerance: 1%; Packaging: Tape and Reel; Package Quantity: 10000; Resistor Type: Thick Film; Termination: SMD/SMT; Number of Terminations: 2; Max Power Dissipation: 100mW; Series: ERJ; Resistance Tolerance: 1%; Technology: THICK FILM; Construction: Rectangular; Voltage Rating (DC): 50V; Length: 1mm; Width: 0.5mm; Height: 0.35mm; Depth: 0.5mm; Reach SVHC Compliant: No; Military Standard: Not; RoHS Compliant: Yes; Lead Free: 5697LeadFree; ComponentLink1URL: https://datasheet.ciiva.com/11821/0900766b80f80784-11821351.pdf?src-supplier=Rs; ComponentLink1Description: https://datasheet.ciiva.com/11821/0900766b80f80784-11821351.pdf?src-supplier=Rs; ComponentLink2URL: https://datasheet.ciiva.com/43467/1678782-43467375.pdf?src-supplier=Farnell; ComponentLink2Description: https://datasheet.ciiva.com/43467/1678782-43467375.pdf?src-supplier=Farnell; ComponentLink3URL: https://datasheet.ciiva.com/16761/70260748-16761739.pdf?src-supplier=Allied+Electronics; ComponentLink3Description: https://datasheet.ciiva.com/16761/70260748-16761739.pdf?src-supplier=Allied+Electronics; ComponentLink4URL: https://datasheet.ciiva.com/16788/70260748-16788554.pdf?src-supplier=Allied+Electronics; ComponentLink4Description: https://datasheet.ciiva.com/16788/70260748-16788554.pdf?src-supplier=Allied+Electronics; ComponentLink5URL: https://datasheet.ciiva.com/9195/aoa0000ce2-9195580.pdf?src-supplier=Avnet; ComponentLink5Description: https://datasheet.ciiva.com/9195/aoa0000ce2-9195580.pdf?src-supplier=Avnet; Supplier 1: Mouser; Supplier Part Number 1: 667-ERJ-2RKF5101X
footprint RESC1005X04N (Chip Resistor, 2-Leads, Body 1.00x0.50mm, IPC Medium Density)
pins: 1, 2

## ERJ-2RKF5232X
designator R?, comment 52.3 k
RES SMD 52.3K OHM 1% 1/10W 0402; Manufacturer: Panasonic; Manufacturer Part Number: ERJ-2RKF5232X; Supplier: Mouser; Supplier Part Number: 667-ERJ-2RKF5232X; RoHS: Yes; Category: Chip SMD Resistors; Stock: 269762; Pricing: 1=0,1, 10=0,017, 50=0,017, 100=0,008, 1000=0,006, 10000=0,003 (USD); ComponentLink1URL: https://datasheet.octopart.com/ERJ-2RKF5232X-Panasonic-datasheet-41391857.pdf?src-supplier=Electro+Sonic; ComponentLink1Description: https://datasheet.octopart.com/ERJ-2RKF5232X-Panasonic-datasheet-41391857.pdf?src-supplier=Electro+Sonic; Supplier 1: Mouser; Supplier Part Number 1: 667-ERJ-2RKF5232X; Value: 52.3 k
footprint RESC1005X04N (Chip Resistor, 2-Leads, Body 1.00x0.50mm, IPC Medium Density)
pins: 1, 2

## ERJ-2RKF5603X
designator R?, comment 560 k
RES SMD 560K OHM 1% 1/10W 0402; Manufacturer: Panasonic Electronic Components; Manufacturer Part Number: ERJ-2RKF5603X; Power (Watts): 0.1W, 1/10W; Temperature Coefficient: ±100ppm/°C; Supplier 1: Digi-Key; RoHS: RoHS Compliant; Category: Resistors; Stock 1: 64278; Pricing 1: 1=0.1, 10=0.025, 25=0.018, 50=0.0136, 100=0.01, 250=0.00764, 500=0.00612, 1000=0.00451, 5000=0.00323 (USD); Packaging: Digi-Reel®; Part Status: Active; Resistance (Ohms): 560k; Tolerance: ±1%; Composition: Thick Film; Features: Automotive AEC-Q200; Operating Temperature: -55°C ~ 155°C; Package / Case: 0402 (1005 Metric); Supplier Device Package: 0402; Size / Dimension: 0.039" L x 0.020" W (1.00mm x 0.50mm); Height - Seated (Max): 0.016" (0.40mm); Number of Terminations: 2; Failure Rate: -; ComponentLink1URL: https://industrial.panasonic.com/cdbs/www-data/pdf/RDA0000/AOA0000C283.pdf; ComponentLink1Description: https://industrial.panasonic.com/cdbs/www-data/pdf/RDA0000/AOA0000C283.pdf; Supplier Part Number 1: P560KLDKR-ND; Value: 560 k
signal-integrity model Model Name (Model Description)
footprint RESC1005X04N (Chip Resistor, 2-Leads, Body 1.00x0.50mm, IPC Medium Density)
pins: 1, 2

## ERJ-2RKF6200X
designator R?, comment 620 R
RES SMD 620 OHM 1% 1/10W 0402; Manufacturer: Panasonic; Manufacturer Part Number: ERJ-2RKF6200X; Voltage Rating: 50V; Resistance: 620R; Power Rating: 100mW; Temperature Coefficient: 100ppm/°C; Supplier 1: Digi-Key; Supplier Part Number 1: P620LCT-ND; Stock 1: 3402; Pricing 1: 1 = 0.10000, 10 = 0.04500, 100 = 0.01830, 1000 = 0.00823, 2500 = 0.00715, 5000 = 0.00590 (USD); RoHS: Yes; Mount: Surface Mount; Case/Package: 0402; Weight: 2.8E-05oz; Case Code (Metric): 1005; Case Code (Imperial): 0402; Contact Plating: Tin; Min Operating Temperature: -55°C; Max Operating Temperature: 155°C; Packaging: Tape and Reel; Tolerance: 1%; Package Quantity: 10000; Composition: Thick Film; Number of Terminations: 2; Termination: SMD/SMT; Max Power Dissipation: 100mW; Voltage Rating (DC): 50V; Features: Automotive AEC-Q200; Military Standard: Not; Length: 1mm; Height: 0.35mm; Width: 0.02inch; Depth: 0.5mm; REACH SVHC: No SVHC; Lead Free: Lead Free; ComponentLink1URL: https://datasheet.ciiva.com/11821/0900766b80f80784-11821345.pdf?src-supplier=RSComponents; ComponentLink1Description: https://datasheet.ciiva.com/11821/0900766b80f80784-11821345.pdf?src-supplier=RSComponents; ComponentLink2URL: https://datasheet.ciiva.com/46373/1678782-46373670.pdf?src-supplier=Element14; ComponentLink2Description: https://datasheet.ciiva.com/46373/1678782-46373670.pdf?src-supplier=Element14; ComponentLink3URL: https://datasheet.ciiva.com/46373/1678782-46373671.pdf?src-supplier=Element14; ComponentLink3Description: https://datasheet.ciiva.com/46373/1678782-46373671.pdf?src-supplier=Element14; ComponentLink4URL: https://datasheet.ciiva.com/22743/1678782-22743848.pdf?src-supplier=Farnell; ComponentLink4Description: https://datasheet.ciiva.com/22743/1678782-22743848.pdf?src-supplier=Farnell; ComponentLink5URL: https://datasheet.ciiva.com/7711/1678782-7711049.pdf?src-supplier=Element14; ComponentLink5Description: https://datasheet.ciiva.com/7711/1678782-7711049.pdf?src-supplier=Element14; ComponentLink6URL: https://datasheet.ciiva.com/16773/70260748-16773113.pdf?src-supplier=Allied+Electronics; ComponentLink6Description: https://datasheet.ciiva.com/16773/70260748-16773113.pdf?src-supplier=Allied+Electronics; ComponentLink7URL: https://datasheet.ciiva.com/30264/aoa0000ce2-30264139.pdf?src-supplier=Onlinecomponents.com; ComponentLink7Description: https://datasheet.ciiva.com/30264/aoa0000ce2-30264139.pdf?src-supplier=Onlinecomponents.com; ComponentLink8URL: https://datasheet.ciiva.com/22681/1678782-22681676.pdf?src-supplier=Element14; ComponentLink8Description: https://datasheet.ciiva.com/22681/1678782-22681676.pdf?src-supplier=Element14; ComponentLink9URL: https://datasheet.ciiva.com/43467/1678782-43467292.pdf?src-supplier=Farnell; ComponentLink9Description: https://datasheet.ciiva.com/43467/1678782-43467292.pdf?src-supplier=Farnell; ComponentLink10URL: https://datasheet.ciiva.com/24159/aoa0000ce2-24159919.pdf?src-supplier=Mouser; ComponentLink10Description: https://datasheet.ciiva.com/24159/aoa0000ce2-24159919.pdf?src-supplier=Mouser; ComponentLink11URL: https://datasheet.ciiva.com/28577/1694929-28577711.pdf?src-supplier=Element14; ComponentLink11Description: https://datasheet.ciiva.com/28577/1694929-28577711.pdf?src-supplier=Element14; Value: 620 R
footprint RESC1005X04N (Chip Resistor, 2-Leads, Body 1.00x0.50mm, IPC Medium Density)
pins: 1, 2

## ERJ-2RKF6343X
designator R?, comment 634 k
RES SMD 634K OHM 1% 1/10W 0402; Manufacturer: Panasonic Electronic Components; Manufacturer Part Number: ERJ-2RKF6343X; Power (Watts): 0.1W, 1/10W; Temperature Coefficient: ±100ppm/°C; Supplier 1: Digi-Key; RoHS: RoHS Compliant; Category: Resistors; Stock 1: 47224; Pricing 1: 1=0.1, 10=0.02, 25=0.0148, 50=0.0112, 100=0.0083, 250=0.00632, 500=0.00504, 1000=0.00371, 5000=0.00266 (USD); Packaging: Digi-Reel®; Part Status: Active; Resistance (Ohms): 634k; Tolerance: ±1%; Composition: Thick Film; Features: Automotive AEC-Q200; Operating Temperature: -55°C ~ 155°C; Package / Case: 0402 (1005 Metric); Supplier Device Package: 0402; Size / Dimension: 0.039" L x 0.020" W (1.00mm x 0.50mm); Height - Seated (Max): 0.016" (0.40mm); Number of Terminations: 2; Failure Rate: -; ComponentLink1URL: https://industrial.panasonic.com/cdbs/www-data/pdf/RDA0000/AOA0000C283.pdf; ComponentLink1Description: https://industrial.panasonic.com/cdbs/www-data/pdf/RDA0000/AOA0000C283.pdf; Supplier Part Number 1: P634KLDKR-ND; Value: 634 k
footprint RESC1005X04N (Chip Resistor, 2-Leads, Body 1.00x0.50mm, IPC Medium Density)
signal-integrity model Model Name (Model Description)
pins: 1, 2

## ERJ-2RKF8062X
designator R?, comment 80.6 k
Res Thick Film 0402 80.6K Ohm 1% 0.1W(1/10W) ±100ppm/C Molded SMD Automotive Punched T/R; Manufacturer: Panasonic ECG; Manufacturer Part Number: ERJ-2RKF8062X; Resistance: 80.6kR; Power Rating: 100mW; Voltage Rating: 50V; Temperature Coefficient: 100ppm/°C; Supplier 1: Digi-Key; Stock 1: 232532; Mount: Surface Mount; Case/Package: 0402; Case Code (Metric): 1005; Case Code (Imperial): 0402; Contact Plating: Tin; Min Operating Temperature: -55°C; Max Operating Temperature: 155°C; Tolerance: 1%; Packaging: Tape and Reel; Package Quantity: 1; Composition: Thick Film; Number of Terminations: 2; Termination: SMD/SMT; Military Standard: Not; Max Power Dissipation: 100mW; Voltage Rating (DC): 50V; Length: 1mm; Height: 0.016inch; Width: 0.02inch; Depth: 0.5mm; REACH SVHC: No SVHC; Lead Free: Lead Free; ComponentLink1URL: https://datasheet.ciiva.com/16768/70260748-16768970.pdf; ComponentLink1Description: https://datasheet.ciiva.com/16768/70260748-16768970.pdf; ComponentLink2URL: https://datasheet.ciiva.com/46378/426256-46378121.pdf; ComponentLink2Description: https://datasheet.ciiva.com/46378/426256-46378121.pdf; ComponentLink3URL: https://datasheet.ciiva.com/30056/aoa0000ce2-30056446.pdf; ComponentLink3Description: https://datasheet.ciiva.com/30056/aoa0000ce2-30056446.pdf; ComponentLink4URL: https://datasheet.ciiva.com/16761/70260748-16761387.pdf; ComponentLink4Description: https://datasheet.ciiva.com/16761/70260748-16761387.pdf; ComponentLink5URL: https://datasheet.ciiva.com/46390/426256-46390341.pdf; ComponentLink5Description: https://datasheet.ciiva.com/46390/426256-46390341.pdf; ComponentLink6URL: https://datasheet.ciiva.com/24069/aoa0000ce2-24069205.pdf; ComponentLink6Description: https://datasheet.ciiva.com/24069/aoa0000ce2-24069205.pdf; ComponentLink7URL: https://datasheet.ciiva.com/28677/1678782-28677654.pdf; ComponentLink7Description: https://datasheet.ciiva.com/28677/1678782-28677654.pdf; ComponentLink8URL: https://datasheet.ciiva.com/9187/aoa0000ce2-9187446.pdf; ComponentLink8Description: https://datasheet.ciiva.com/9187/aoa0000ce2-9187446.pdf; Value: 80.6 k; Supplier Part Number 1: P80.6KLCT-ND
footprint RESC1005X04N (Chip Resistor, 2-Leads, Body 1.00x0.50mm, IPC Medium Density)
signal-integrity model Model Name (Model Description)
pins: 1, 2

## ERJ-2RKF8450X
designator R?, comment 845 R
RES SMD 845 OHM 1% 1/10W 0402; Manufacturer: Panasonic Electronic Components; Manufacturer Part Number: ERJ-2RKF8450X; Power (Watts): 0.1W, 1/10W; Temperature Coefficient: ±100ppm/°C; Supplier 1: Digi-Key; RoHS: RoHS Compliant; Category: Resistors; Stock: 236880; Pricing: 1=0.1, 10=0.023, 100=0.0095, 1000=0.00428, 2500=0.00372, 5000=0.00307 (USD); Packaging: Digi-Reel®; Part Status: Active; Tolerance: ±1%; Composition: Thick Film; Features: Automotive AEC-Q200; Operating Temperature: -55°C ~ 155°C; Package / Case: 0402 (1005 Metric); Supplier Device Package: 0402; Size / Dimension: 0.039" L x 0.020" W (1.00mm x 0.50mm); Height - Seated (Max): 0.016" (0.40mm); Failure Rate: -; ComponentLink1URL: https://industrial.panasonic.com/cdbs/www-data/pdf/RDA0000/AOA0000C304.pdf; ComponentLink1Description: https://industrial.panasonic.com/cdbs/www-data/pdf/RDA0000/AOA0000C304.pdf; Supplier Part Number 1: P845LDKR-ND; Value: 845 R
footprint RESC1005X04N (Chip Resistor, 2-Leads, Body 1.00x0.50mm, IPC Medium Density)
pins: 1, 2